# Altium schematic symbol library LTC7000EMSE1PBF.SchLib: 1 symbol
Pins are listed as number, name and electrical type; pins without a type are passive.

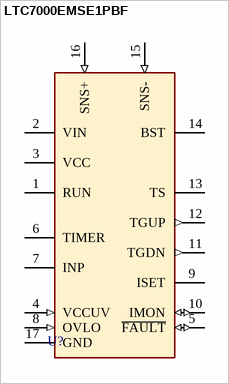
[diagram p0: symbol LTC7000EMSE1PBF]

## LTC7000EMSE1PBF
designator U?, comment LTC7000EMSE-1#PBF  (value not drawn)
Gate Drivers Fast 150V Protected High Side NMOS Static Switch Driver
pins: 1 RUN, 2 VIN (power), 3 VCC (power), 4 VCCUV (in), 5 ~{FAULT} (io), 6 TIMER, 7 INP, 8 OVLO (in), 9 ISET, 10 IMON (io), 11 TGDN (out), 12 TGUP (out), 13 TS, 14 BST, 15 SNS- (in), 16 SNS+ (in), 17 GND (power)